# Altium footprint library Lib1.PcbLib: 53 footprints (part 1 of 4)
Each footprint in its own frame and in the unit in brackets; x right, y up, seen from the top. Pads: shape width x height; smd on the part's side, far side on the other; paste and mask are expansions set on the pad; w line width, h text height; cw(c..) or ccw(c..) is an arc to the next point about the centre after c.
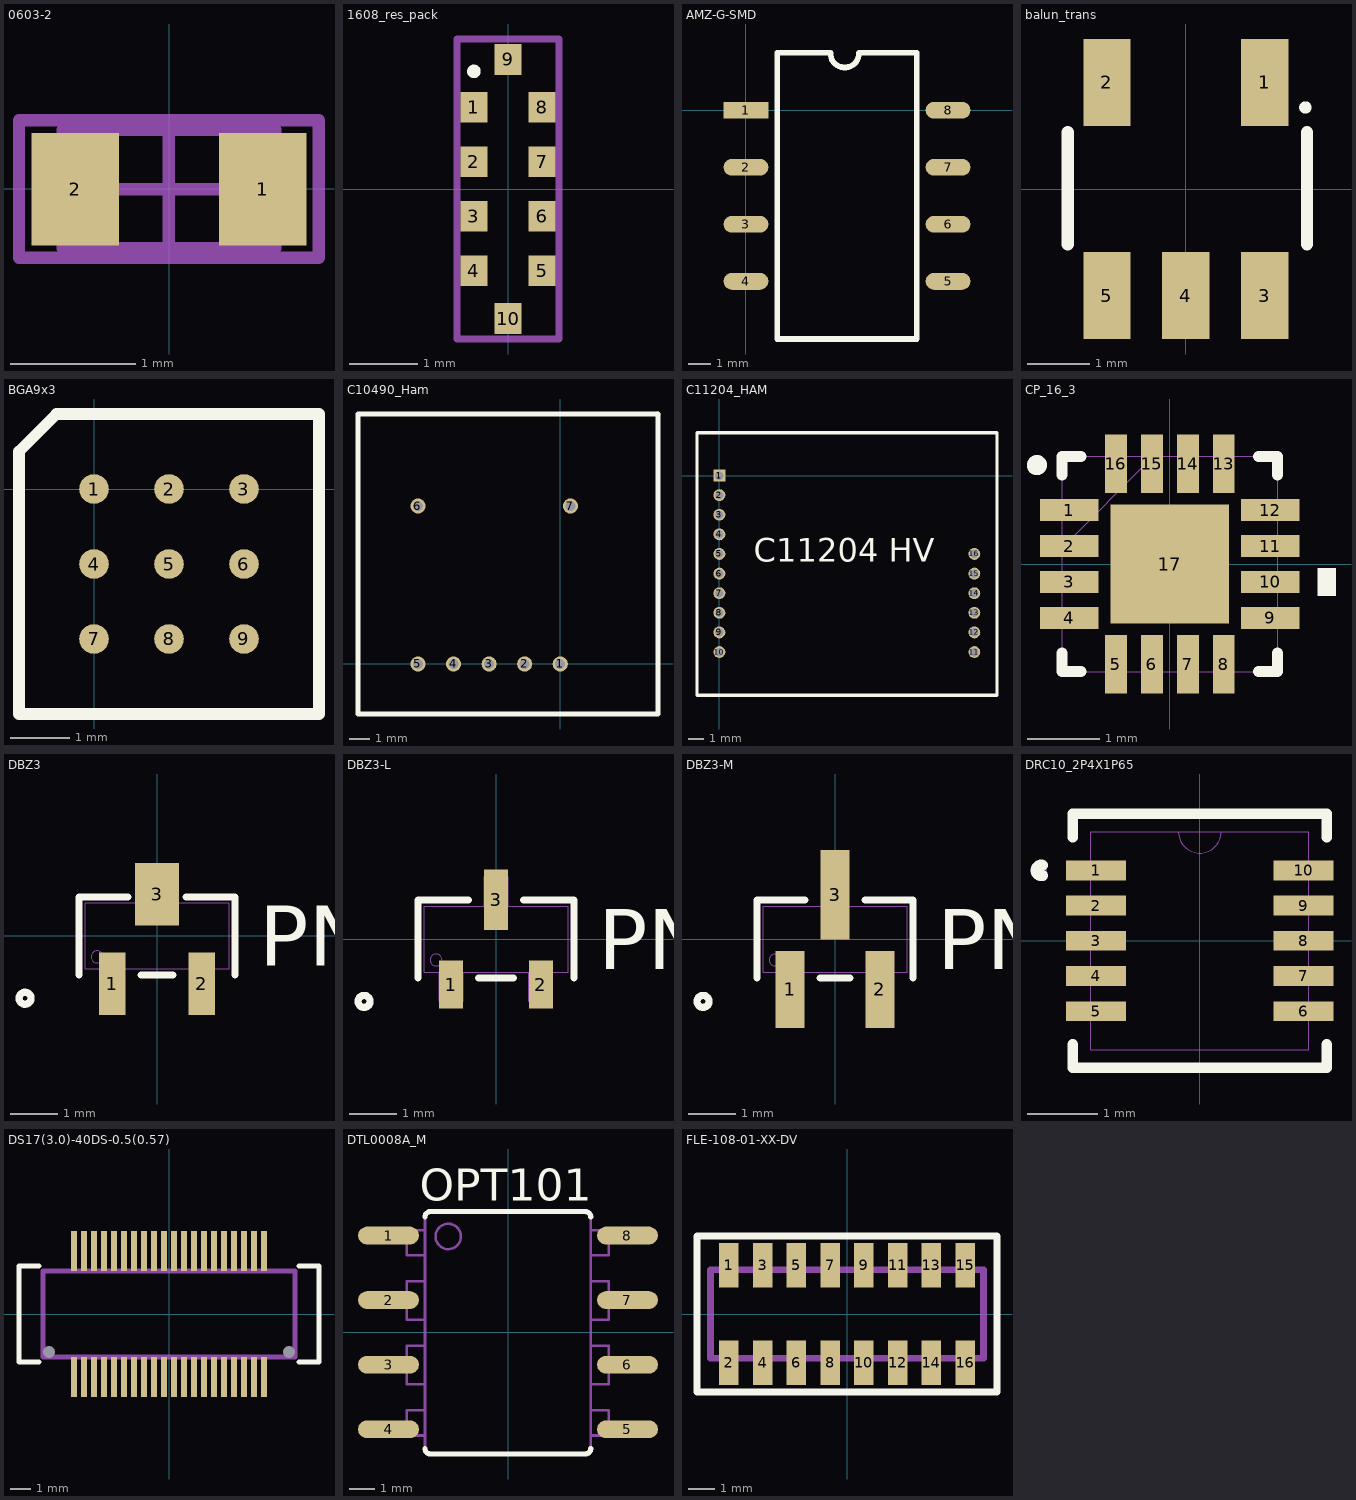
[diagram p0: the footprints below, top view; thin cyan lines are the x and y axes]

## 0603-2 [mm]
pads (2):
  rect 0.7x0.9 smd: 1(0.75,0) 2(-0.75,0)
Mechanical 13:
  lines w0.1: -0.85,-0.475 -0.85,0.475 0.85,0.475 0.85,-0.475 -0.85,-0.475
Mechanical 15:
  lines w0.1: -0.475,0 0.475,0 ; 0,-0.475 0,0.475 ; -1.2,-0.55 -1.2,0.55 1.2,0.55 1.2,-0.55 -1.2,-0.55
3D body: height 0.9, standoff 0, extent -0.85,-0.475 0.85,0.475

## 1608_res_pack [mm]
pads (10):
  rect 0.4x0.45 smd: 1(-0.5,1.2) 2(-0.5,0.4) 3(-0.5,-0.4) 4(-0.5,-1.2) 5(0.5,-1.2) 6(0.5,-0.4) 7(0.5,0.4) 8(0.5,1.2) 9(0,1.9) 10(0,-1.9)
Top Overlay:
  circle w0.1: c-0.5,1.725 r0.05
Mechanical 13:
  lines w0.1: -0.75,-2.2 -0.75,2.2 0.75,2.2 0.75,-2.2 -0.75,-2.2
3D body: height 0.9, standoff 0, extent -0.749,-2.2 0.749,2.2

## AMZ-G-SMD [mm]
pads (8):
  rect 2x0.75 smd: 1(0,0)
  oval 2x0.75 smd: 2(0,-2.54) 3(0,-5.08) 4(0,-7.62) 5(9,-7.62) 6(9,-5.08) 7(9,-2.54) 8(9,0)
Top Overlay:
  lines w0.254: 3.75,2.562 1.389,2.562 1.389,-10.188 7.611,-10.188 7.611,2.562 5.062,2.562 ; 3.762,2.55 ccw(c4.397,2.54) 5.033,2.55

## balun_trans [mm] "SOT-23/SC-74A; 5 Leads; Body 3 x 3 mm, inc. leads (LxW max)"
height 1.45
pads (5):
  rect 0.76x1.4 smd: 1(1.27,1.715) 2(-1.27,1.715) 3(1.27,-1.715) 4(0,-1.715) 5(-1.27,-1.715)
Top Overlay:
  circle w0.1: c1.925,1.312 r0.05
  lines w0.2: -1.9,-0.888 -1.9,0.913 ; 1.95,-0.888 1.95,0.913

## BGA9x3 [mm]
pads (9):
  round 0.5 smd: 1(0,0) 2(1.27,0) 3(2.54,0) 4(0,-1.27) 5(1.27,-1.27) 6(2.54,-1.27) 7(0,-2.54) 8(1.27,-2.54) 9(2.54,-2.54)
Top Overlay:
  lines w0.2: -1.27,-3.81 -1.27,0.635 -0.635,1.27 3.81,1.27 3.81,-3.81 -1.27,-3.81

## C10490_Ham [mil]
height 708.66
pads (7):
  round 30 hole 19.68: 1(0,0) 2(-70,0) 3(-140,0) 4(-210,0) 5(-280,0) 6(-280,311.02) 7(20,311.02)
Top Overlay:
  lines w10: 191.89,492.13 -398.11,492.13 -398.11,-98.43 192.44,-98.43 192.44,491.57
Mechanical 1:
  lines w10: 191.89,492.13 192.44,491.57

## C11204_HAM [mm]
pads (16):
  rect 0.765x0.765 hole 0.55: 1(0,0)
  round 0.765 hole 0.55: 2(0,-1.27) 3(0,-2.54) 4(0,-3.81) 5(0,-5.08) 6(0,-6.35) 7(0,-7.62) 8(0,-8.89) 9(0,-10.16) 10(0,-11.43) 11(16.51,-11.43) 12(16.51,-10.16) 13(16.51,-8.89) 14(16.51,-7.62) 15(16.51,-6.35) 16(16.51,-5.08)
Top Overlay:
  lines w0.2: 17.962,2.77 -1.45,2.77 -1.45,-14.23 17.975,-14.23 17.975,2.758
  text "C11204 HV" at 2.225,-5.593 h1.52

## CP_16_3 [mil]
pads (17):
  rect 32x12 smd mask+1.57: 1(-55,29.53) 2(-55,9.84) 3(-55,-9.84) 4(-55,-29.53) 9(55,-29.53) 10(55,-9.84) 11(55,9.84) 12(55,29.53)
  rect 12x32 smd mask+1.57: 5(-29.53,-55) 6(-9.84,-55) 7(9.84,-55) 8(29.53,-55) 13(29.53,55) 14(9.84,55) 15(-9.84,55) 16(-29.53,55)
  rect 65x65 smd mask-32: 17(0,0)
Top Overlay:
  circle w10: c-72.83,54.13 r0.49
  region: 81,-2.34 91,-2.34 91,-17.34 81,-17.34
  lines w6: -59,-48.63 -59,-59 -48.63,-59 ; -59,48.63 -59,59 -48.63,59 ; 48.63,-59 59,-59 59,-48.63 ; 48.63,59 59,59 59,48.63
Mechanical 1:
  lines w0: -59,9 -9,59 ; -59,-59 59,-59 59,59 -59,59 -59,-59 ; -59,-35.53 -59,-23.53 -59,-35.53 ; -59,-15.84 -59,-3.84 -59,-15.84 ; -59,3.84 -59,15.84 -59,3.84 ; -59,23.53 -59,35.53 -59,23.53 ; -35.53,-59 -23.53,-59 -35.53,-59 ; -35.53,59 -23.53,59 -35.53,59 ; -15.84,-59 -3.84,-59 -15.84,-59 ; -15.84,59 -3.84,59 -15.84,59 ; 3.84,-59 15.84,-59 3.84,-59 ; 3.84,59 15.84,59 3.84,59 ; 23.53,-59 35.53,-59 23.53,-59 ; 23.53,59 35.53,59 23.53,59 ; 59,-35.53 59,-23.53 59,-35.53 ; 59,-15.84 59,-3.84 59,-15.84 ; 59,3.84 59,15.84 59,3.84 ; 59,23.53 59,35.53 59,23.53

## DBZ3 [mil]
pads (3):
  rect 22x52 smd: 1(-37.4,-40) 2(37.4,-40)
  rect 37x52 smd: 3(0,34.75)
Top Overlay:
  circle w6: c-110,-52 r5
  lines w6: -65,-32.5 -65,32.5 -24.1,32.5 ; -13.3,-32.5 13.3,-32.5 ; 24.1,32.5 65,32.5 65,-32.5
  text "PN" at 85,-25 h50
Mechanical 1:
  circle w0: c-50,-17.5 r5
  lines w0: -60,-27.5 60,-27.5 60,27.5 -60,27.5 -60,-27.5 ; -47.4,-52 -47.4,-27.5 -27.4,-27.5 -27.4,-52 -47.4,-52 ; -10,27.5 10,27.5 10,52 -10,52 -10,27.5 ; 27.4,-52 27.4,-27.5 47.4,-27.5 47.4,-52 27.4,-52

## DBZ3-L [mil]
pads (3):
  rect 20x40 smd: 1(-37.4,-38) 2(37.4,-38)
  rect 20x50.5 smd: 3(0,32.75)
Top Overlay:
  circle w6: c-110,-52 r5
  lines w6: -65,-32.5 -65,32.5 -23.1,32.5 ; -14.3,-32.5 14.3,-32.5 ; 23.1,32.5 65,32.5 65,-32.5
  text "PN" at 85,-25 h50
Mechanical 1:
  circle w0: c-50,-17.5 r5
  lines w0: -60,-27.5 -60,27.5 60,27.5 60,-27.5 -60,-27.5 ; -47.4,-52 -27.4,-52 -27.4,-27.5 -47.4,-27.5 -47.4,-52 ; -10,27.5 -10,52 10,52 10,27.5 -10,27.5 ; 27.4,-52 47.4,-52 47.4,-27.5 27.4,-27.5 27.4,-52

## DBZ3-M [mil]
pads (3):
  rect 24x64 smd: 1(-37.4,-42) 2(37.4,-42)
  rect 24x74.5 smd: 3(0,36.75)
Top Overlay:
  circle w6: c-110,-52 r5
  lines w6: -65,-32.5 -65,32.5 -25.1,32.5 ; -12.3,-32.5 12.3,-32.5 ; 25.1,32.5 65,32.5 65,-32.5
  text "PN" at 85,-25 h50
Mechanical 1:
  circle w0: c-50,-17.5 r5
  lines w0: -60,-27.5 60,-27.5 60,27.5 -60,27.5 -60,-27.5 ; -47.4,-52 -47.4,-27.5 -27.4,-27.5 -27.4,-52 -47.4,-52 ; -10,27.5 10,27.5 10,52 -10,52 -10,27.5 ; 27.4,-52 27.4,-27.5 47.4,-27.5 47.4,-52 27.4,-52

## DRC10 [mm]

## DRC10_2P4X1P65 [mm]
pads (10):
  rect 0.85x0.28 smd paste-0.14: 1(-1.475,1) 2(-1.475,0.5) 3(-1.475,0) 4(-1.475,-0.5) 5(-1.475,-1) 6(1.475,-1) 7(1.475,-0.5) 8(1.475,0) 9(1.475,0.5) 10(1.475,1)
Top Overlay:
  lines w0.152: -2.233,0.926 cw(c-2.252,1) -2.233,1.074 ; -1.804,-1.473 -1.804,-1.804 1.804,-1.804 1.804,-1.473 ; -1.804,1.473 -1.804,1.804 1.804,1.804 1.804,1.473
Top Paste:
  region: -1.085,1.105 -1.865,1.105 -1.865,0.895 -1.085,0.895
  region: -1.085,0.605 -1.865,0.605 -1.865,0.395 -1.085,0.395
  region: -1.085,0.105 -1.865,0.105 -1.865,-0.105 -1.085,-0.105
  region: -1.085,-0.395 -1.865,-0.395 -1.865,-0.605 -1.085,-0.605
  region: -1.085,-0.895 -1.865,-0.895 -1.865,-1.105 -1.085,-1.105
  region: 1.865,-0.895 1.085,-0.895 1.085,-1.105 1.865,-1.105
  region: 1.865,-0.395 1.085,-0.395 1.085,-0.605 1.865,-0.605
  region: 1.865,0.105 1.085,0.105 1.085,-0.105 1.865,-0.105
  region: 1.865,0.605 1.085,0.605 1.085,0.395 1.865,0.395
  region: 1.865,1.105 1.085,1.105 1.085,0.895 1.865,0.895
Top Solder:
  region: -1.015,1.175 -1.935,1.175 -1.935,0.825 -1.015,0.825
  region: -1.015,0.675 -1.935,0.675 -1.935,0.325 -1.015,0.325
  region: -1.015,0.175 -1.935,0.175 -1.935,-0.175 -1.015,-0.175
  region: -1.015,-0.325 -1.935,-0.325 -1.935,-0.675 -1.015,-0.675
  region: -1.015,-0.825 -1.935,-0.825 -1.935,-1.175 -1.015,-1.175
  region: 1.935,-0.825 1.015,-0.825 1.015,-1.175 1.935,-1.175
  region: 1.935,-0.325 1.015,-0.325 1.015,-0.675 1.935,-0.675
  region: 1.935,0.175 1.015,0.175 1.015,-0.175 1.935,-0.175
  region: 1.935,0.675 1.015,0.675 1.015,0.325 1.935,0.325
  region: 1.935,1.175 1.015,1.175 1.015,0.825 1.935,0.825
Mechanical 1:
  circle w0: c-2.252,1 r0.076
  lines w0: -0.305,1.55 ccw(c0,1.55) 0.305,1.55 ; -1.55,-1.55 1.55,-1.55 1.55,1.55 -1.55,1.55 -1.55,-1.55

## DS17(3.0)-40DS-0.5(0.57) [mm]
pads (42):
  rect 0.3x2 smd mask+0.05: 1(4.75,-3.15) 2(4.25,-3.15) 3(3.75,-3.15) 4(3.25,-3.15) 5(2.75,-3.15) 6(2.25,-3.15) 7(1.75,-3.15) 8(1.25,-3.15) 9(0.75,-3.15) 10(0.25,-3.15) 11(-0.25,-3.15) 12(-0.75,-3.15) 13(-1.25,-3.15) 14(-1.75,-3.15) 15(-2.25,-3.15) 16(-2.75,-3.15) 17(-3.25,-3.15) 18(-3.75,-3.15) 19(-4.25,-3.15) 20(-4.75,-3.15) 21(-4.75,3.15) 22(-4.25,3.15) 23(-3.75,3.15) 24(-3.25,3.15) 25(-2.75,3.15) 26(-2.25,3.15) 27(-1.75,3.15) 28(-1.25,3.15) 29(-0.75,3.15) 30(-0.25,3.15) 31(0.25,3.15) 32(0.75,3.15) 33(1.25,3.15) 34(1.75,3.15) 35(2.25,3.15) 36(2.75,3.15) 37(3.25,3.15) 38(3.75,3.15) 39(4.25,3.15) 40(4.75,3.15)
  round 0 hole 0.6 unplated: 41(6,-1.9) 42(-6,-1.9)
Top Overlay:
  lines w0.254: -6.5,-2.4 -7.5,-2.4 -7.5,2.4 -6.5,2.4 ; 6.5,-2.4 7.5,-2.4 7.5,2.4 6.5,2.4
Mechanical 1:
  lines w0.254: -6.3,-2.15 6.3,-2.15 6.3,2.15 -6.3,2.15 -6.3,-2.15
  text "J1" at -0.446,-0.457 h0.76

## DTL0008A_M [mm]
pads (8):
  oval 2.4x0.7 smd paste+0 mask+0.051: 1(-4.7,3.81) 2(-4.7,1.27) 3(-4.7,-1.27) 4(-4.7,-3.81) 5(4.7,-3.81) 6(4.7,-1.27) 7(4.7,1.27) 8(4.7,3.81)
Top Overlay:
  lines w0.2: -3.265,-4.579 -3.265,-4.577 ; -3.265,-4.579 ccw(c-3.065,-4.577) -3.066,-4.777 -3.065,-4.777 -0.196,-4.777 ; -3.265,4.548 -3.265,4.549 cw(c-3.065,4.548) -3.066,4.747 -3.065,4.748 -0.196,4.748 ; 3.255,-4.579 3.255,-4.577 ; 3.255,-4.579 cw(c3.055,-4.577) 3.056,-4.777 3.055,-4.777 0.185,-4.777 ; 3.255,4.548 3.255,4.549 ccw(c3.055,4.548) 3.056,4.747 3.055,4.748 0.185,4.748 ; -0.196,-4.777 0.185,-4.777 ; -0.196,-4.777 0.185,-4.777 ; -0.196,4.748 0.185,4.748 ; -0.196,4.748 0.185,4.748
  text "OPT101" at -3.463,5.188 h1.27
Mechanical 13:
  drawing of 175 lines, arcs and shapes, not listed

## FLE-108-01-XX-DV [mil]
pads (16):
  rect 29x66 smd mask+2: 1(-175,72.5) 2(-175,-72.5) 3(-125,72.5) 4(-125,-72.5) 5(-75,72.5) 6(-75,-72.5) 7(-25,72.5) 8(-25,-72.5) 9(25,72.5) 10(25,-72.5) 11(75,72.5) 12(75,-72.5) 13(125,72.5) 14(125,-72.5) 15(175,72.5) 16(175,-72.5)
Top Overlay:
  lines w10: -222.25,-115.5 222.25,-115.5 222.25,115.5 -222.25,115.5 -222.25,-115.5
Mechanical 1:
  lines w10: -202.25,-65.5 202.25,-65.5 202.25,65.5 -202.25,65.5 -202.25,-65.5
  text "J1" at -19.57,-20 h30